# EAGLE library part CURRENT_SENSE_ACS711 (library foe-scale)
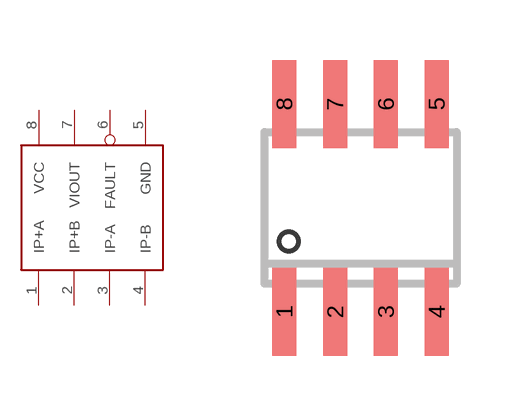
[diagram p4: symbol with the pads of SOIC8; footprint SOIC8]

Designator prefix U3

## CURRENT_SENSE_ACS711  [SOIC8]
1  IP+A
2  IP+B
3  IP-A
4  IP-B
5  GND
6  FAULT
7  VIOUT
8  VCC

## Footprint SOIC8 (pad centres in mm)
Small Outline IC
smd 0.6 x 2.2: 1 -1.905,-2.6; 2 -0.635,-2.6; 3 0.635,-2.6; 4 1.905,-2.6; 5 1.905,2.6; 6 0.635,2.6; 7 -0.635,2.6; 8 -1.905,2.6